# Altium schematic symbol library jlcpcb_2025_04_capacitors_extended_01005.schlib: 1 symbol
Pins are listed as number, name and electrical type; pins without a type are passive.

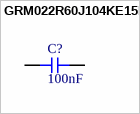
[diagram p0: symbol GRM022R60J104KE15L]

## GRM022R60J104KE15L
designator C?  Capacitance: 100nF  (hidden comment: *)
Capacitor, Ceramic (MLCC), 100nF, ±10%, 6.3V, X5R, ±10%, SMD 01005; Manufacturer: Murata Electronics; Manufacturer Part Number: GRM022R60J104KE15L; Package Size: 01005; JLCPCB Basic Part: No; JLCPCB Part Number: C412247; Supplier 1: LCSC; Category: Capacitors - MLCC; Supplier Part Number 1: C412247; Tolerance: ±10%; Voltage Rating: 6.3V; Temperature Coefficient: X5R; RoHS: Yes; ComponentLink1Description: Datasheet; ComponentLink1URL: https://wmsc.lcsc.com/wmsc/upload/file/pdf/v2/lcsc/2304140030_Murata-Electronics-GRM022R60J104KE15L_C412247.pdf; ComponentLink2Description: JLCPCB Part URL; ComponentLink2URL: https://jlcpcb.com/partdetail/C412247; ComponentLink3Description: LCSC Part URL; ComponentLink3URL: https://lcsc.com/product-detail/Multilayer-Ceramic-Capacitors-MLCC---SMD-SMT_Murata-Electronics-Murata-Electronics-GRM022R60J104KE15L_C412247.html
footprint CAP-01005 (01005 (0402M) Capacitor)
pins: 1, 2